# EAGLE library part 614004190021 (library 614004190021)
USB Connectors WR-COM USB Type A THT Horizontal Source: Datasheet <http://katalog.we-online.de/em/datasheet/614004190021.pdf>
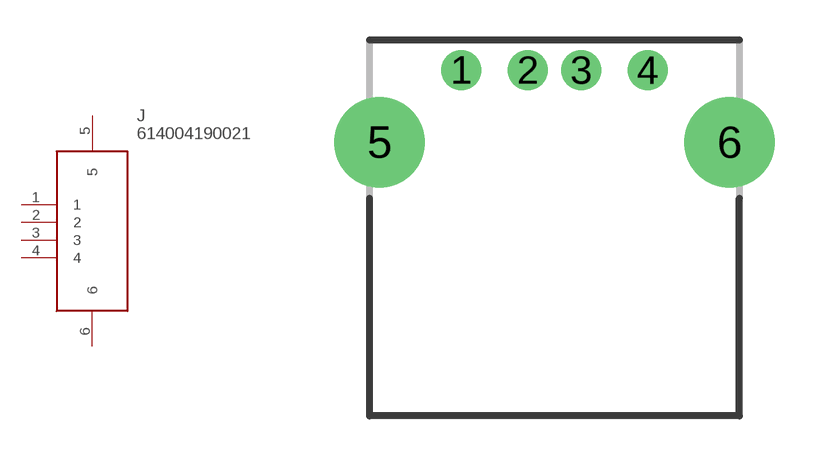
[diagram p0: symbol with the pads of USB-2.0-TYPE-A; footprint USB-2.0-TYPE-A]

Designator prefix J

## 614004190021 (Description: USB Connectors WR-COM USB Type A THT Horizontal; Height: mm; Manufacturer_Name: Wurth Elektronik; Manufacturer_Part_Number: 614004190021; Mouser_Part_Number: 710-614004190021; Mouser_Price-Stock: https://www.mouser.co.uk/ProductDetail/Wurth-Elektronik/614004190021?qs=DvsTirrhYfPiiHUeEQNGBQ%3D%3D)  [USB-2.0-TYPE-A]
1  1
2  2
3  3
4  4
5  5
6  6

## Footprint USB-2.0-TYPE-A (pad centres in mm)
USB-2.0-TYPE-A
drill 0.92 pad 1.5: 1 -3.5,13.01; 2 -1,13.01; 3 1,13.01; 4 3.5,13.01
drill 2.3 pad 3.4: 5 -6.57,10.3; 6 6.57,10.3